# EAGLE library part CONN-D9-FEMALE (library SteveMarple)
SUB-D
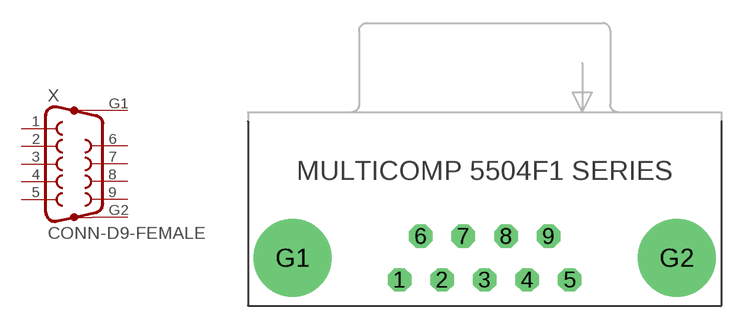
[diagram p41: symbol with the pads of DSUB-5504F1-02-9PIN; footprint DSUB-5504F1-02-9PIN]

Designator prefix X

## CONN-D9-FEMALEMULTICOMP-5504F1 (OC_FARNELL: unknown; OC_NEWARK: unknown)  [DSUB-5504F1-02-9PIN]
1  1  pas
2  2  pas
3  3  pas
4  4  pas
5  5  pas
6  6  pas
7  7  pas
8  8  pas
9  9  pas
G1  G1  pas
G2  G2  pas

## Footprint DSUB-5504F1-02-9PIN (pad centres in mm)
SUB-D Steve Marple 2016
drill 1.016 octagon: 1 -5.54,-1.42; 2 -2.77,-1.42; 3 0,-1.42; 4 2.77,-1.42; 5 5.54,-1.42; 6 -4.155,1.42; 7 -1.385,1.42; 8 1.385,1.42; 9 4.155,1.42
drill 3.302 pad 5.08: G1 -12.495,0; G2 12.495,0